# EAGLE library part INA219 (library INA219 - I2C Current & Power Monitor)
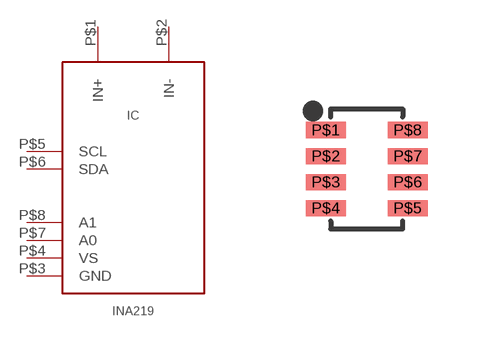
[diagram p0: symbol with the pads of SOT-23-8; footprint SOT-23-8]

Designator prefix IC

## INA219  [SOT-23-8]
P$1  IN+  in
P$2  IN-  out
P$3  GND  pwr
P$4  VS  pwr
P$5  SCL  in
P$6  SDA
P$7  A0  hiz
P$8  A1  hiz

## Footprint SOT-23-8 (pad centres in mm)
smd 1 x 0.4: P$1 -1.025,0.975; P$2 -1.025,0.325; P$3 -1.025,-0.325; P$4 -1.025,-0.975; P$5 1.025,-0.975; P$6 1.025,-0.325; P$7 1.025,0.325; P$8 1.025,0.975